# EAGLE library part APA-102-2020-256-8 (library APA-102-2020-256-8)
8-pin type LED three-color RGB Dimming control Check availability <https://pricing.snapeda.com/parts/APA-102-2020-256-8/iPixel%20LED%20Light%20Co./view-part?ref=eda>
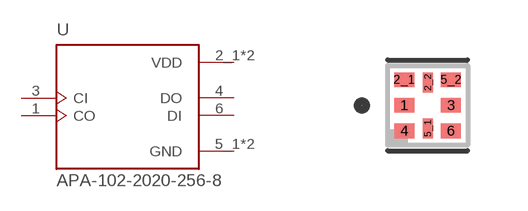
[diagram p0: symbol with the pads of LED_APA-102-2020-256-8; footprint LED_APA-102-2020-256-8]

Designator prefix U

## APA-102-2020-256-8 (Availability: Not in stock; Description: 8-pin type LED three-color RGB Dimming control; MF: iPixel LED Light Co.; MP: APA-102-2020-256-8; Package: SMD-8 iPixel LED Light Co.; Price: None)  [LED_APA-102-2020-256-8]
1  CO  out
2_1  VDD  pwr
2_2  VDD  pwr
3  CI  in
4  DO  out
5_1  GND  pwr
5_2  GND  pwr
6  DI  in

## Footprint LED_APA-102-2020-256-8 (pad centres in mm)
smd 0.5 x 0.37: 1 -0.585,0; 2_1 -0.585,0.64; 3 0.585,0; 4 -0.585,-0.64; 5_2 0.585,0.64; 6 0.585,-0.64
smd 0.25 x 0.5: 2_2 0,0.575; 5_1 0,-0.575